# EAGLE library part 74HC595PW-Q100,118 (library 74HC595PW-Q100_118)
74HC(T)595-Q100 - 8-bit serial-in, serial or parallel-out shift register with output latches; 3-state@en-us Source: Datasheet <https://assets.nexperia.com/documents/data-sheet/74HC_HCT595_Q100.pdf>
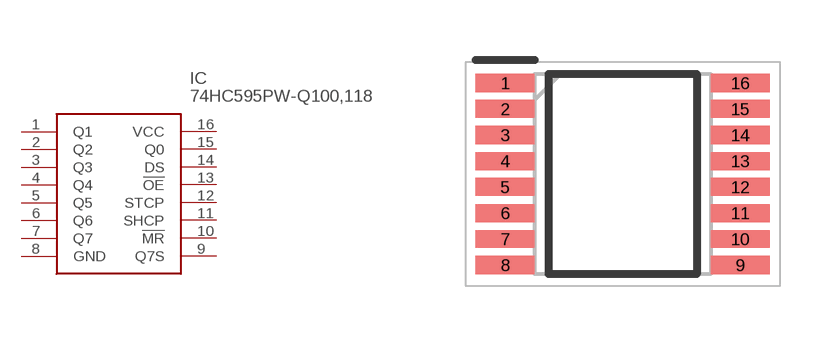
[diagram p0: symbol with the pads of SOP65P640X110-16N; footprint SOP65P640X110-16N]

Designator prefix IC

## 74HC595PW-Q100,118 (Description: 74HC(T)595-Q100 - 8-bit serial-in, serial or parallel-out shift register with output latches; 3-state@en-us; Height: 1.1mm; Manufacturer_Name: Nexperia; Manufacturer_Part_Number: 74HC595PW-Q100,118; Mouser_Part_Number: 771-74HC595PW-Q100; Mouser_Price-Stock: https://www.mouser.co.uk/ProductDetail/Nexperia/74HC595PW-Q100118?qs=1sbE9T7hb3aHrTORCcEuDg%3D%3D)  [SOP65P640X110-16N]
1  Q1
2  Q2
3  Q3
4  Q4
5  Q5
6  Q6
7  Q7
8  GND
9  Q7S
10  !MR
11  SHCP
12  STCP
13  !OE
14  DS
15  Q0
16  VCC

## Footprint SOP65P640X110-16N (pad centres in mm)
SOT403-1
smd 1.475 x 0.45: 1 -2.938,2.275; 2 -2.938,1.625; 3 -2.938,0.975; 4 -2.938,0.325; 5 -2.938,-0.325; 6 -2.938,-0.975; 7 -2.938,-1.625; 8 -2.938,-2.275; 9 2.938,-2.275; 10 2.938,-1.625; 11 2.938,-0.975; 12 2.938,-0.325; 13 2.938,0.325; 14 2.938,0.975; 15 2.938,1.625; 16 2.938,2.275